# Altium schematic symbol library SC52-11HWA.SchLib: 1 symbol
Pins are listed as number, name and electrical type; pins without a type are passive.

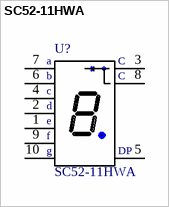
[diagram p0: symbol SC52-11HWA]

## SC52-11HWA
designator U?
Display: LED; single 7-segment; 13.2mm; red; 0.9-2.2mcd; MF: Kingbright; Package: None; MP: SC52-11HWA; Price: None; Availability: Unavailable; SnapEDA_Link: https://www.snapeda.com/parts/SC52-11HWA/Kingbright/view-part/?ref=snap; Value: *
footprint *LED_SC52-11HWA
pins: 1 E, 2 D, 3 C@1, 4 C, 5 DP, 6 B, 7 A, 8 C@2, 9 F, 10 G
text: a; b; c; d; e; f; g